# Altium schematic symbol library LED.SchLib: 8 symbols
Pins are listed as number, name and electrical type; pins without a type are passive.

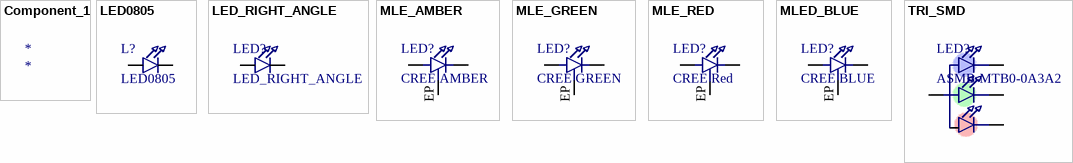
[diagram p0: symbols Component_1 to TRI_SMD]

## Component_1
designator *

## LED0805
designator L?
SMD 805 LED; Supplier 1: Farnell
footprint 805_LED (SMD 805 LED)
pins: A, C

## LED_RIGHT_ANGLE
designator LED?
Right angle LED; Supplier 1: Farnell; Supplier Part Number 1: 1519346
footprint RIGHT_ANGLE_LED_550-0407F (Right angle led to go though panel (DIALIGHT  550-0407F))
pins: A, C

## MLE_AMBER
designator LED?, comment CREE AMBER
Amber CREE LED; Supplier 1: Farnell; Supplier Part Number 1: 2430053RL
footprint XLamp ML-E (CREE LED)
pins: A, C, EP

## MLE_GREEN
designator LED?, comment CREE GREEN
Green CREE LED; Supplier 1: Farnell; Supplier Part Number 1: 2097592
footprint XLamp ML-E (CREE LED)
pins: A, C, EP

## MLE_RED
designator LED?, comment CREE Red
Red CREE LED; Supplier 1: Farnell; Supplier Part Number 1: 2097587
footprint XLamp ML-E (CREE LED)
pins: A, C, EP

## MLED_BLUE
designator LED?, comment CREE BLUE
Blue CREE LED; Supplier 1: Farnell; Supplier Part Number 1: 2097593
footprint XLamp ML-E (CREE LED)
pins: A, C, EP

## TRI_SMD
designator LED?, comment ASMB-MTB0-0A3A2
Tri colour LED (RBG); Supplier 1: Farnell; Supplier 2: Octopart; Supplier 3: Mouser; Supplier Part Number 1: 2401105; Supplier Part Number 2: Digi-Key - 516-3279-2-ND; Supplier Part Number 3: 630-ASMB-MTB0-0A3A2
footprint ASMB-MTB0-0A3A2 (RBG LED)
pins: 1 A, 2 Blue, 3 Green, 4 Red